# Altium schematic symbol library TPD3S014DBVR.SchLib: 1 symbol
Pins are listed as number, name and electrical type; pins without a type are passive.

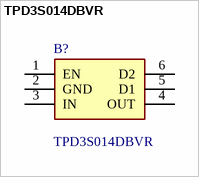
[diagram p0: symbol TPD3S014DBVR]

## TPD3S014DBVR
designator B?
Current Limit Load Sw & TVS 0.5A SOT23-6 Texas Instruments TPD3S014DBVR Load Switch IC, Current Limit Switch, 4.5  5.5V, 6-Pin, SOT-23; Geometry.Height: 1.45mm; Manufacturer_Name: Texas Instruments; Manufacturer_Part_Number: TPD3S014DBVR; Mouser Part Number: 595-TPD3S014DBVR; Mouser Price/Stock: https://www.mouser.co.uk/ProductDetail/Texas-Instruments/TPD3S014DBVR?qs=1CfNGUMoiQ%252BDmiZShdlX0g%3D%3D; Arrow Part Number: TPD3S014DBVR; Arrow Price/Stock: https://www.arrow.com/en/products/tpd3s014dbvr/texas-instruments?region=nac; Datasheet Link: http://www.ti.com/lit/ds/symlink/tpd3s044.pdf
footprint SOT95P280X145-6N
pins: 1 EN, 2 GND, 3 IN, 4 OUT, 5 D1, 6 D2